# Altium footprint library Detectors.PcbLib: 2 footprints
Each footprint in its own frame and in the unit in brackets; x right, y up, seen from the top. Pads: shape width x height; smd on the part's side, far side on the other; paste and mask are expansions set on the pad; w line width, h text height; cw(c..) or ccw(c..) is an arc to the next point about the centre after c.
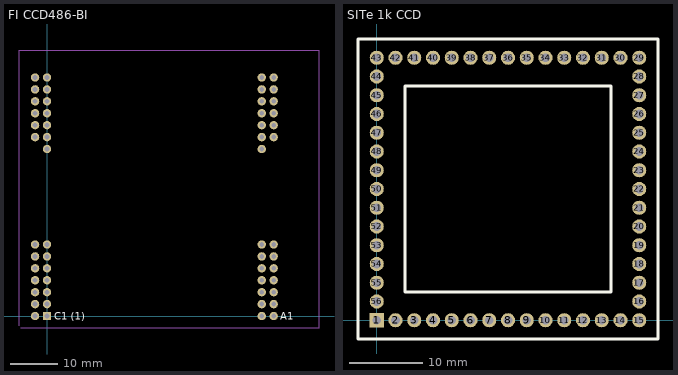
[diagram p0: the footprints below, top view; thin cyan lines are the x and y axes]

## FI CCD486-BI [mil] "Fairchild CCD486 BI Socket"
pads (54):
  round 70 hole 40: A1(1900,0) A2(1900,100) A3(1900,200) A4(1900,300) A5(1900,400) A6(1900,500) A7(1900,600) A16(1900,1500) A17(1900,1600) A18(1900,1700) A19(1900,1800) A20(1900,1900) A21(1900,2000) B1(1800,0) B2(1800,100) B3(1800,200) B4(1800,300) B5(1800,400) B6(1800,500) B7(1800,600) B15(1800,1400) B16(1800,1500) B17(1800,1600) B18(1800,1700) B19(1800,1800) B20(1800,1900) B21(1800,2000) C2(0,100) C3(0,200) C4(0,300) C5(0,400) C6(0,500) C7(0,600) C15(0,1400) C16(0,1500) C17(0,1600) C18(0,1700) C19(0,1800) C20(0,1900) C21(0,2000) D1(-100,0) D2(-100,100) D3(-100,200) D4(-100,300) D5(-100,400) D6(-100,500) D7(-100,600) D16(-100,1500) D17(-100,1600) D18(-100,1700) D19(-100,1800) D20(-100,1900) D21(-100,2000)
  rect 70x70 hole 40: C1(0,0)
Top Overlay:
  text "A1" at 1955,-30 h60
  text "C1 (1)" at 60,-30 h60
Mechanical 1:
  lines w10: -235,-80 -235,2230 2280,2230 2280,-100 -220,-100

## SITe 1k CCD [mil] "SITe 1k X 1k BI CCD"
pads (56):
  rect 75x75 hole 46: 1(0,0)
  round 75 hole 46: 2(100,0) 3(200,0) 4(300,0) 5(400,0) 6(500,0) 7(600,0) 8(700,0) 9(800,0) 10(900,0) 11(1000,0) 12(1100,0) 13(1200,0) 14(1300,0) 15(1400,0) 16(1400,100) 17(1400,200) 18(1400,300) 19(1400,400) 20(1400,500) 21(1400,600) 22(1400,700) 23(1400,800) 24(1400,900) 25(1400,1000) 26(1400,1100) 27(1400,1200) 28(1400,1300) 29(1400,1400) 30(1300,1400) 31(1200,1400) 32(1100,1400) 33(1000,1400) 34(900,1400) 35(800,1400) 36(700,1400) 37(600,1400) 38(500,1400) 39(400,1400) 40(300,1400) 41(200,1400) 42(100,1400) 43(0,1400) 44(0,1300) 45(0,1200) 46(0,1100) 47(0,1000) 48(0,900) 49(0,800) 50(0,700) 51(0,600) 52(0,500) 53(0,400) 54(0,300) 55(0,200) 56(0,100)
Top Overlay:
  lines w15: -100,-100 -100,1500 1500,1500 1500,-100 -100,-100 ; 150,150 1250,150 1250,1250 150,1250 150,150